# EAGLE library part MEM2051-00-195-00-A (library MEM2051-00-195-00-A)
MICRO SD PUSH PUSH, OPEN, SMT, 1 Source: Datasheet <https://gct.co/files/drawings/mem2051.pdf>
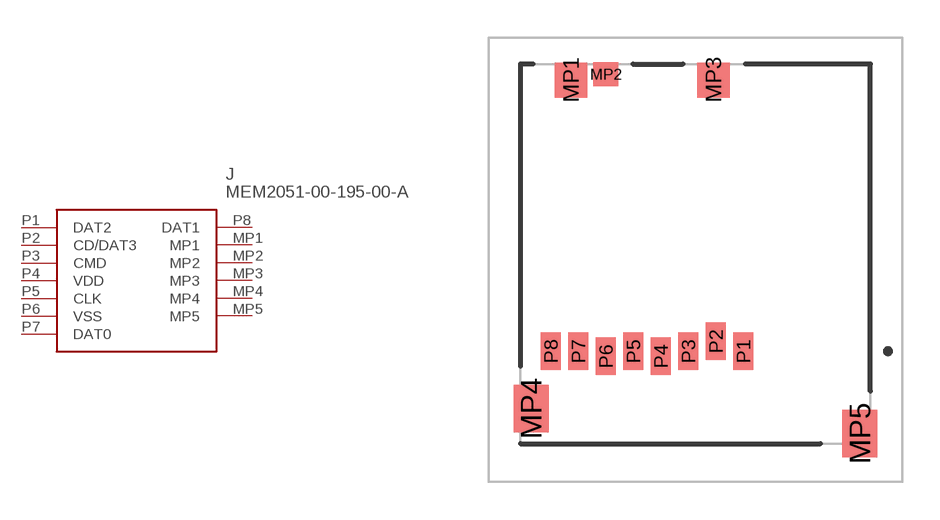
[diagram p0: symbol with the pads of MEM20510019500A; footprint MEM20510019500A]

Designator prefix J

## MEM2051-00-195-00-A (Description: MICRO SD PUSH PUSH, OPEN, SMT, 1; Height: 2.05mm; Manufacturer_Name: GCT (GLOBAL CONNECTOR TECHNOLOGY); Manufacturer_Part_Number: MEM2051-00-195-00-A; Mouser_Part_Number: 640-MEM20510019500A; Mouser_Price-Stock: https://www.mouser.co.uk/ProductDetail/GCT/MEM2051-00-195-00-A?qs=KUoIvG%2F9Ilat7yfJRNWXUQ%3D%3D)  [MEM20510019500A]
MP1  MP1
MP2  MP2
MP3  MP3
MP4  MP4
MP5  MP5
P1  DAT2
P2  CD/DAT3
P3  CMD
P4  VDD
P5  CLK
P6  VSS
P7  DAT0
P8  DAT1

## Footprint MEM20510019500A (pad centres in mm)
MEM2051-00-195-00-A-3
smd 1.3 x 1.4: MP1 -4.975,7.199; MP3 0.725,7.199
smd 1 x 0.95: MP2 -3.585,7.425
smd 1.4 x 1.9: MP4 -6.575,-5.95; MP5 6.575,-6.95
smd 0.8 x 1.5: P1 1.915,-3.661; P2 0.815,-3.261; P3 -0.285,-3.661; P4 -1.385,-3.861; P5 -2.485,-3.661; P6 -3.585,-3.861; P7 -4.685,-3.661; P8 -5.785,-3.661